# Altium schematic symbol library ADL5513ACPZ-R7.SchLib: 1 symbol
Pins are listed as number, name and electrical type; pins without a type are passive.

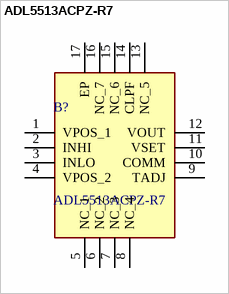
[diagram p0: symbol ADL5513ACPZ-R7]

## ADL5513ACPZ-R7
designator B?
ANALOG DEVICES - ADL5513ACPZ-R7 - DETECTOR, 1MHZ - 4GHZ, 80DB, LFCSP-16; Geometry.Height: 0.8mm; Manufacturer_Name: Analog Devices; Manufacturer_Part_Number: ADL5513ACPZ-R7; Mouser Part Number: 584-ADL5513ACPZ-R7; Mouser Price/Stock: https://www.mouser.co.uk/ProductDetail/Analog-Devices/ADL5513ACPZ-R7?qs=BpaRKvA4VqGe6%2FPlUcoEpw%3D%3D; Arrow Part Number: ADL5513ACPZ-R7; Arrow Price/Stock: https://www.arrow.com/en/products/adl5513acpz-r7/analog-devices?utm_currency=USD&region=nac; Datasheet Link: https://www.analog.com/media/en/technical-documentation/data-sheets/ADL5513.pdf
footprint QFN50P300X300X80-17N-D
pins: 1 VPOS_1, 2 INHI, 3 INLO, 4 VPOS_2, 5 NC_1, 6 NC_2, 7 NC_3, 8 NC_4, 9 TADJ, 10 COMM, 11 VSET, 12 VOUT, 13 NC_5, 14 CLPF, 15 NC_6, 16 NC_7, 17 EP